# Altium footprint library PBL4_GR4_PcbLib.PcbLib: 35 footprints (part 3 of 3)
Each footprint in its own frame and in the unit in brackets; x right, y up, seen from the top. Pads: shape width x height; smd on the part's side, far side on the other; paste and mask are expansions set on the pad; w line width, h text height; cw(c..) or ccw(c..) is an arc to the next point about the centre after c.
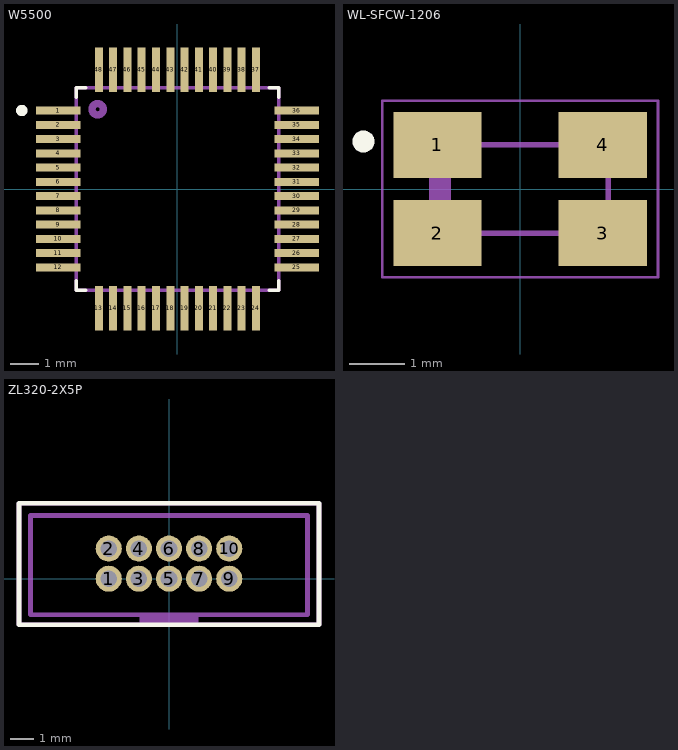
[diagram p2: the footprints below, top view; thin cyan lines are the x and y axes]

## W5500 [mm]
height 1.6
pads (48):
  rect 1.56x0.28 smd: 1(-4.18,2.75) 2(-4.18,2.25) 3(-4.18,1.75) 4(-4.18,1.25) 5(-4.18,0.75) 6(-4.18,0.25) 7(-4.18,-0.25) 8(-4.18,-0.75) 9(-4.18,-1.25) 10(-4.18,-1.75) 11(-4.18,-2.25) 12(-4.18,-2.75) 25(4.18,-2.75) 26(4.18,-2.25) 27(4.18,-1.75) 28(4.18,-1.25) 29(4.18,-0.75) 30(4.18,-0.25) 31(4.18,0.25) 32(4.18,0.75) 33(4.18,1.25) 34(4.18,1.75) 35(4.18,2.25) 36(4.18,2.75)
  rect 0.28x1.56 smd: 13(-2.75,-4.18) 14(-2.25,-4.18) 15(-1.75,-4.18) 16(-1.25,-4.18) 17(-0.75,-4.18) 18(-0.25,-4.18) 19(0.25,-4.18) 20(0.75,-4.18) 21(1.25,-4.18) 22(1.75,-4.18) 23(2.25,-4.18) 24(2.75,-4.18) 37(2.75,4.18) 38(2.25,4.18) 39(1.75,4.18) 40(1.25,4.18) 41(0.75,4.18) 42(0.25,4.18) 43(-0.25,4.18) 44(-0.75,4.18) 45(-1.25,4.18) 46(-1.75,4.18) 47(-2.25,4.18) 48(-2.75,4.18)
Top Overlay:
  circle w0.2: c-5.45,2.75 r0.1
  lines w0.127: -3.55,-3.22 -3.55,-3.55 -3.22,-3.55 ; -3.55,3.22 -3.55,3.55 -3.22,3.55 ; 3.22,-3.55 3.55,-3.55 3.55,-3.22 ; 3.22,3.55 3.55,3.55 3.55,3.22
Top Component Outline:
  drawing of 53 lines, arcs and shapes, not listed
3D body "W5500.step": height 1.6, standoff 0, extent -4.5,-4.5 4.5,4.5

## WL-SFCW-1206 [mm] "SMT Full-color Chip LED Waterclear, body 3.20 x 1.60mm"
height 0.7
pads (4):
  rect 1.6x1.2 smd: 1(-1.5,0.8) 2(-1.5,-0.8) 3(1.5,-0.8) 4(1.5,0.8)
Top Overlay:
  circle w0.2: c-2.839,0.861 r0.1
Top Component Outline:
  rectangle: -1.6,-0.8 -1.25,0.8
  lines w0.1: -1.6,-0.8 1.6,-0.8 1.6,0.8 -1.6,0.8 -1.6,-0.8
Top Assembly:
  lines w0.05: -2.5,-1.6 2.5,-1.6 2.5,1.6 -2.5,1.6 -2.5,-1.6
  text ".Designator" at -1.682,-0.203 h1
3D body "150120M173000.stp": height 0.7, standoff 0, extent -1.6,-0.8 1.6,0.8

## ZL320-2X5P [mm]
pads (10):
  round 1.1 hole 0.7 unplated: 1(-2.54,0) 2(-2.54,1.27) 3(-1.27,0) 4(-1.27,1.27) 5(0,0) 6(0,1.27) 7(1.27,0) 8(1.27,1.27) 9(2.54,0) 10(2.54,1.27)
Top Overlay:
  lines w0.2: -6.325,-1.945 -6.325,3.185 6.325,3.185 6.325,-1.945 -6.325,-1.945
Top Component Outline:
  rectangle: -1.25,-1.945 1.25,-1.524
  lines w0.2: -6.325,-1.945 -6.325,3.185 6.325,3.185 6.325,-1.945 -6.325,-1.945 ; -5.842,-1.524 -5.842,2.667 5.842,2.667 5.842,-1.524 -5.842,-1.524
Top Assembly:
  lines w0.2: -6.325,-1.945 6.325,-1.945 6.325,3.185 -6.325,3.185 -6.325,-1.945
  text ".Designator" at -3.81,0.282 h1.5
Additional Info:
  rectangle: -1.25,-1.945 1.25,-1.524
  lines w0.2: -6.325,-1.945 -6.325,3.185 6.325,3.185 6.325,-1.945 -6.325,-1.945 ; -5.842,-1.524 -5.842,2.667 5.842,2.667 5.842,-1.524 -5.842,-1.524
3D body "User Library-3220-10-0100.STEP": height 5.4, standoff -2.1, extent -6.325,-1.945 6.325,3.185